# EAGLE library part LEVEL-SHIFTER (library foe-scale)
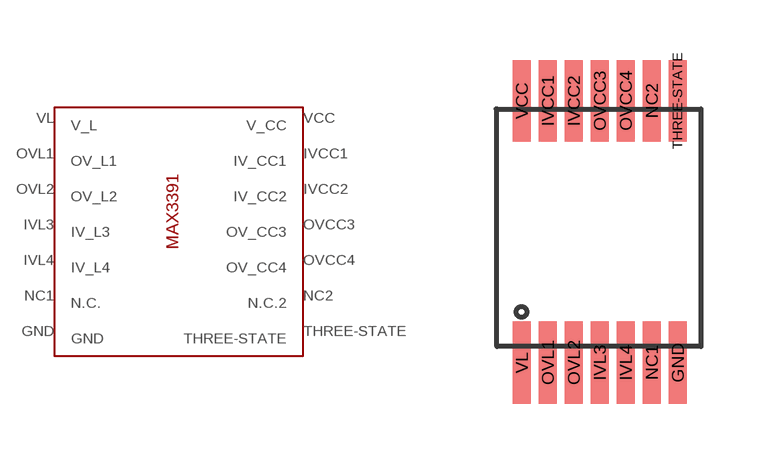
[diagram p15: symbol with the pads of TSSOP-14; footprint TSSOP-14]

Designator prefix -

## LEVEL-SHIFTER  [TSSOP-14]
GND  GND
IVCC1  IV_CC1
IVCC2  IV_CC2
IVL3  IV_L3
IVL4  IV_L4
NC1  N.C.
NC2  N.C.2
OVCC3  OV_CC3
OVCC4  OV_CC4
OVL1  OV_L1
OVL2  OV_L2
THREE-STATE  THREE-STATE
VCC  V_CC
VL  V_L

## Footprint TSSOP-14 (pad centres in mm)
smd 0.45 x 2.05: GND 3.9,0; IVCC1 0.65,6.55; IVCC2 1.3,6.55; IVL3 1.95,0; IVL4 2.6,0; NC1 3.25,0; NC2 3.25,6.55; OVCC3 1.95,6.55; OVCC4 2.6,6.55; OVL1 0.65,0; OVL2 1.3,0; THREE-STATE 3.9,6.55; VCC 0,6.55; VL 0,0